# EAGLE library part DRV8825 (library DRV8825)
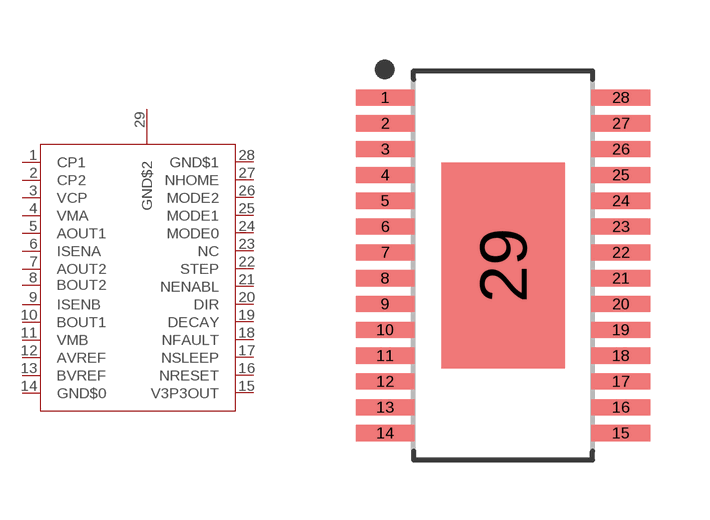
[diagram p0: symbol with the pads of SOP65P660X135-29T310X518N; footprint SOP65P660X135-29T310X518N]

Designator prefix -

## DRV8825  [SOP65P660X135-29T310X518N]
1  CP1
2  CP2
3  VCP
4  VMA
5  AOUT1  out
6  ISENA
7  AOUT2  out
8  BOUT2  out
9  ISENB
10  BOUT1  out
11  VMB
12  AVREF  in
13  BVREF  in
14  GND$0  pwr
15  V3P3OUT  pwr
16  NRESET  in
17  NSLEEP  in
18  NFAULT  in
19  DECAY  in
20  DIR  in
21  NENABL  in
22  STEP  in
23  NC  nc
24  MODE0  in
25  MODE1  in
26  MODE2  in
27  NHOME
28  GND$1  pwr
29  GND$2  pwr

## Footprint SOP65P660X135-29T310X518N (pad centres in mm)
28-SOP, 0.65 mm pitch, 6.60 mm span, 9.70 X 4.50 X 1.35 mm body, 5.18 X 3.10 mm thermal pad 28-pin SOP package with 0.65 mm pitch, 6.60 mm span with body size 9.70 X 4.50 X 1.35 mm and thermal pad size 5.18 X 3.10 mm
smd 1.478 x 0.407: 1 -2.967,4.225; 2 -2.967,3.575; 3 -2.967,2.925; 4 -2.967,2.275; 5 -2.967,1.625; 6 -2.967,0.975; 7 -2.967,0.325; 8 -2.967,-0.325; 9 -2.967,-0.975; 10 -2.967,-1.625; 11 -2.967,-2.275; 12 -2.967,-2.925; 13 -2.967,-3.575; 14 -2.967,-4.225; 15 2.967,-4.225; 16 2.967,-3.575; 17 2.967,-2.925; 18 2.967,-2.275; 19 2.967,-1.625; 20 2.967,-0.975; 21 2.967,-0.325; 22 2.967,0.325; 23 2.967,0.975; 24 2.967,1.625; 25 2.967,2.275; 26 2.967,2.925; 27 2.967,3.575; 28 2.967,4.225
smd 3.1 x 5.18: 29 0,0